# Altium schematic symbol library Relay_NO.SchLib: 1 symbol
Pins are listed as number, name and electrical type; pins without a type are passive.

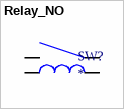
[diagram p0: symbol Relay_NO]

## Relay_NO
designator SW?
pins: 1, 2, 3, 4